# Altium footprint library AwesomeComponents.PcbLib: 15 footprints
Each footprint in its own frame and in the unit in brackets; x right, y up, seen from the top. Pads: shape width x height; smd on the part's side, far side on the other; paste and mask are expansions set on the pad; w line width, h text height; cw(c..) or ccw(c..) is an arc to the next point about the centre after c.
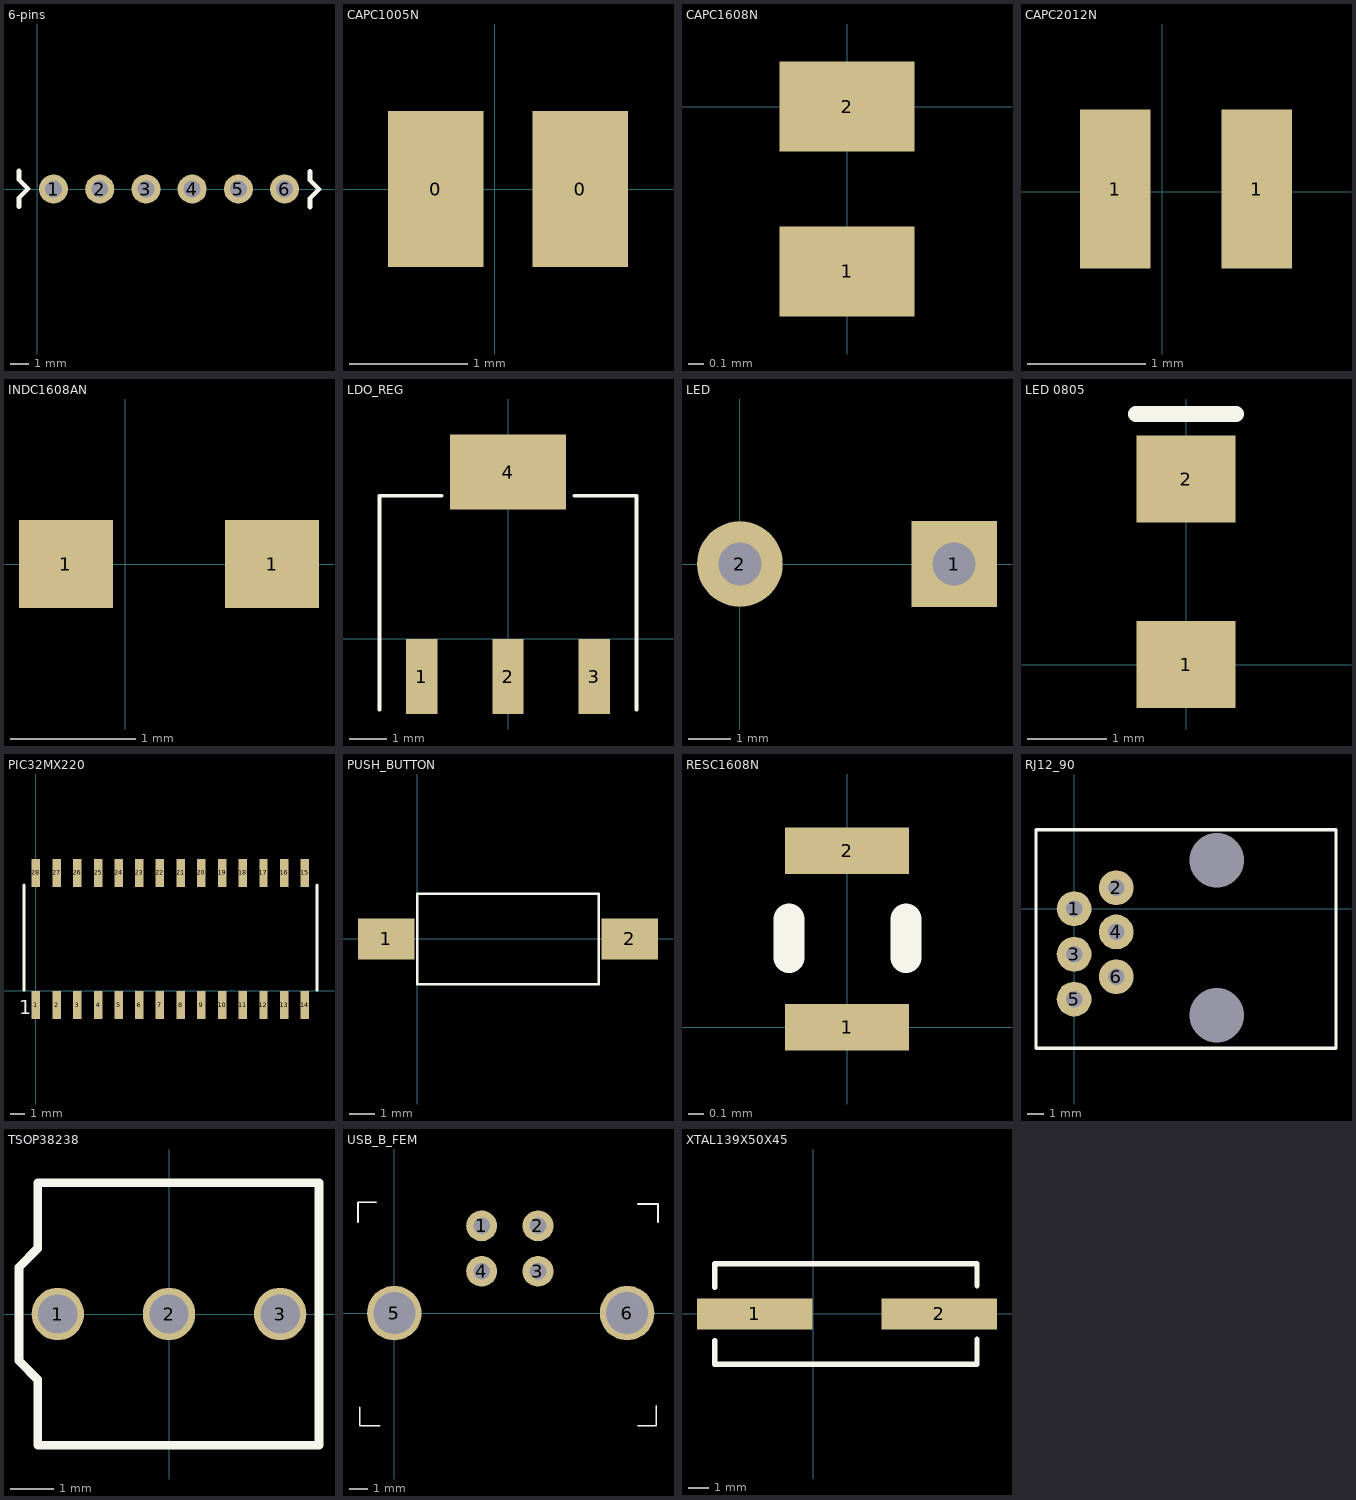
[diagram p0: the footprints below, top view; thin cyan lines are the x and y axes]

## 6-pins [mm]
pads (6):
  round 1.6 hole 0.93: 1(0.9,0) 2(3.44,0) 3(5.98,0) 4(8.52,0) 5(11.06,0) 6(13.6,0)
Top Overlay:
  lines w0.254: -1,-0.975 -1,-0.481 -0.506,0.013 -1,0.506 -1,1 ; 15,-0.988 15,-0.494 15.494,0 15,0.494 15,0.987

## CAPC1005N [mm]
pads (2):
  rect 0.813x1.321 smd: 0(-0.5,0) 0(0.725,0)

## CAPC1608N [mm]
pads (2):
  rect 0.9x0.6 smd: 1(0,-1.1) 2(0,0)

## CAPC2012N [mm]
height 0.2
pads (2):
  rect 0.6x1.35 smd: 1(-0.4,0.025) 1(0.8,0.025)

## INDC1608AN [mm] "'600r"
height 0.9
pads (2):
  rect 0.75x0.7 smd: 1(-0.475,0) 1(1.175,0)

## LDO_REG [mm]
pads (4):
  rect 0.84x2 smd: 1(-2.3,-1.016) 2(0,-1.016) 3(2.3,-1.016)
  rect 3.1x2 smd: 4(0,4.445)
Top Overlay:
  lines w0.1: -3.429,-1.905 -3.429,3.81 -1.778,3.81 ; 1.778,3.81 3.429,3.81 3.429,-1.905

## LED [mm]
height 50
pads (2):
  rect 2x2 hole 1: 1(5,0)
  round 2 hole 1: 2(0,0)

## LED 0805 [mm]
height 0.25
pads (2):
  rect 1.25x1.1 smd: 1(0,0) 2(0,2.35)
Top Overlay:
  lines w0.2: -0.635,3.175 0.635,3.175

## PIC32MX220 [mm]
height 2.55
pads (28):
  rect 0.6x2 smd: 1(0,-1) 2(1.475,-1) 3(2.95,-1) 4(4.425,-1) 5(5.9,-1) 6(7.35,-1) 7(8.825,-1) 8(10.3,-1) 9(11.775,-1) 10(13.25,-1) 11(14.725,-1) 12(16.2,-1) 13(17.675,-1) 14(19.15,-1) 15(19.15,8.4) 16(17.675,8.4) 17(16.2,8.4) 18(14.725,8.4) 19(13.25,8.4) 20(11.775,8.4) 21(10.3,8.4) 22(8.825,8.4) 23(7.35,8.4) 24(5.9,8.4) 25(4.425,8.4) 26(2.95,8.4) 27(1.475,8.4) 28(0,8.4)
Top Overlay:
  lines w0.2: -0.85,0.05 -0.85,7.55 ; 20,0.05 20,7.55
  text "1" at -1.2,-1.65 h1

## PUSH_BUTTON [mm] "1437566-3"
height 4.57
pads (2):
  rect 2.18x1.6 smd: 1(-1.2,0) 2(8.2,0)
Top Overlay:
  lines w0.1: 0,-1.75 7,-1.75 7,1.75 0,1.75 0,-1.75

## RESC1608N [mm]
height 0.6
pads (2):
  rect 0.8x0.3 smd: 1(0,0) 2(0,1.143)
Top Overlay:
  lines w0.2: -0.375,0.45 -0.375,0.7 ; 0.381,0.45 0.381,0.7

## RJ12_90 [mm]
height 15
pads (8):
  round 0 hole 3.3 unplated mask+0.102: 0(8.6,-6.425) 0(8.6,2.925)
  round 2.1 hole 1: 1(0,0) 2(2.54,1.27) 3(0,-2.74) 4(2.54,-1.4) 5(0,-5.45) 6(2.54,-4.1)
Top Overlay:
  lines w0.2: -2.3,-8.425 15.8,-8.425 15.8,4.775 -2.3,4.775 -2.3,-8.425

## TSOP38238 [mm]
pads (3):
  round 1.2 hole 0.9: 1(-2.54,0) 2(0,0) 3(2.54,0)
Top Overlay:
  lines w0.2: -3.429,-1.071 -3,-1.5 -3,-3 3.429,-3 3.429,3 -3,3 -3,1.5 -3.429,1.071 -3.429,-1.071

## USB_B_FEM [mm]
height 11.5
pads (6):
  round 1.7 hole 0.92: 1(4.8,4.8) 2(7.9,4.8) 3(7.9,2.3) 4(4.8,2.3)
  round 3 hole 2.3: 5(0,0) 6(12.8,0)
Top Overlay:
  lines w0.1: -2,5 -2,6.1 -1,6.1 ; -1.9,-5.2 -1.9,-6.2 -0.8,-6.2 ; 13.4,-6.2 14.4,-6.2 14.4,-5.1 ; 13.4,6 14.5,6 14.5,5

## XTAL139X50X45 [mm]
height 4.3
pads (2):
  rect 5.5x1.5 smd: 1(-2.8,0) 2(6,0)
Top Overlay:
  lines w0.254: -4.705,-1.27 -4.705,-2.4 7.8,-2.4 7.8,-1.206 ; -4.705,1.27 -4.705,2.4 7.8,2.4 7.8,1.333